# Altium footprint library WL-TMRW.PcbLib: 4 footprints
Each footprint in its own frame and in the unit in brackets; x right, y up, seen from the top. Pads: shape width x height; smd on the part's side, far side on the other; paste and mask are expansions set on the pad; w line width, h text height; cw(c..) or ccw(c..) is an arc to the next point about the centre after c.
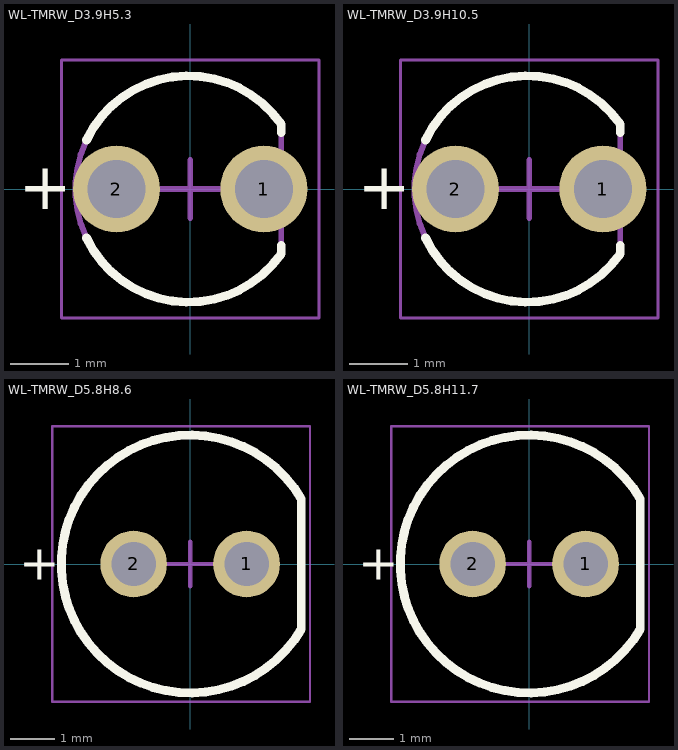
[diagram p0: the footprints below, top view; thin cyan lines are the x and y axes]

## WL-TMRW_D3.9H5.3 [mm] "THT Mono-color Round LED, 2-leads"
height 5.3
pads (2):
  round 1.5 hole 1: 1(1.27,0) 2(-1.27,0)
Top Overlay:
  lines w0.15: -1.788,-0.844 ccw(c-0.03,0) 1.571,-1.114 1.571,-0.971 ; -1.788,0.844 cw(c-0.03,0) 1.571,1.114 1.571,0.971
  text "+" at -2.95,-0.35 h0.8
Top Assembly:
  lines w0.1: 1.57,-1.113 1.57,1.113 ; 1.571,-1.113 cw(c-0.03,0) 1.571,1.114
Top Designator:
  text ".Designator" at -3.647,-0.357 h1
Top Courtyard:
  lines w0.05: -2.22,-2.22 -2.22,2.22 2.22,2.22 2.22,-2.22 -2.22,-2.22
Top Component Center:
  lines w0.1: -0.5,0 0.5,0 ; 0,-0.5 0,0.5
3D body "151034xxx.stp": height 5.3, standoff -26.4, extent -1.966,-1.95 1.604,1.949

## WL-TMRW_D3.9H10.5 [mm] "THT Mono-color Round LED, 2-leads"
height 10.5
pads (2):
  round 1.5 hole 1: 1(1.27,0) 2(-1.27,0)
Top Overlay:
  lines w0.15: -1.788,-0.844 ccw(c-0.03,0) 1.571,-1.114 1.571,-0.971 ; -1.788,0.844 cw(c-0.03,0) 1.571,1.114 1.571,0.971
  text "+" at -2.95,-0.35 h0.8
Top Assembly:
  lines w0.1: 1.57,-1.113 1.57,1.113 ; 1.571,-1.113 cw(c-0.03,0) 1.571,1.114
Top Designator:
  text ".Designator" at -3.647,-0.357 h1
Top Courtyard:
  lines w0.05: -2.22,-2.22 -2.22,2.22 2.22,2.22 2.22,-2.22 -2.22,-2.22
Top Component Center:
  lines w0.1: -0.5,0 0.5,0 ; 0,-0.5 0,0.5
3D body "151033xxx.stp": height 10.55, standoff -21.15, extent -1.966,-1.95 1.854,1.949

## WL-TMRW_D5.8H8.6 [mm] "THT Mono-color Round LED, 2-leads"
height 8.6
pads (2):
  round 1.5 hole 1: 1(1.27,0) 2(-1.27,0)
Top Overlay:
  lines w0.2: 2.5,-1.467 2.5,1.467 ; 2.501,-1.467 cw(c0,0) 2.502,1.467
  text "+" at -3.85,-0.35 h0.8
Top Assembly:
  lines w0.1: 2.5,-1.467 2.5,1.467 ; 2.501,-1.467 cw(c0,0) 2.502,1.467
Top Designator:
  text ".Designator" at -3.647,-0.357 h1
Top Courtyard:
  lines w0.05: -3.1,-3.1 -3.1,3.1 2.7,3.1 2.7,-3.1 -3.1,-3.1
Top Component Center:
  lines w0.1: -0.5,0 0.5,0 ; 0,-0.5 0,0.5
3D body "151054xxx.stp": height 9.1, standoff -25.9, extent -2.9,-2.899 2.5,2.9

## WL-TMRW_D5.8H11.7 [mm] "THT Mono-color Round LED, 2-leads"
height 11.7
pads (2):
  round 1.5 hole 1: 1(1.27,0) 2(-1.27,0)
Top Overlay:
  lines w0.2: 2.5,-1.467 2.5,1.467 ; 2.501,-1.467 cw(c0,0) 2.502,1.467
  text "+" at -3.85,-0.35 h0.8
Top Assembly:
  lines w0.1: 2.5,-1.467 2.5,1.467 ; 2.501,-1.467 cw(c0,0) 2.502,1.467
Top Designator:
  text ".Designator" at -3.647,-0.357 h1
Top Courtyard:
  lines w0.05: -3.1,-3.1 2.7,-3.1 2.7,3.1 -3.1,3.1 -3.1,-3.1
Top Component Center:
  lines w0.1: -0.5,0 0.5,0 ; 0,-0.5 0,0.5
3D body "151053xxx.stp": height 11.7, standoff -23.3, extent -2.9,-2.899 2.5,2.9